# Altium footprint library SW_TL2230EEF100.PcbLib: 1 footprints
Each footprint in its own frame and in the unit in brackets; x right, y up, seen from the top. Pads: shape width x height; smd on the part's side, far side on the other; paste and mask are expansions set on the pad; w line width, h text height; cw(c..) or ccw(c..) is an arc to the next point about the centre after c.
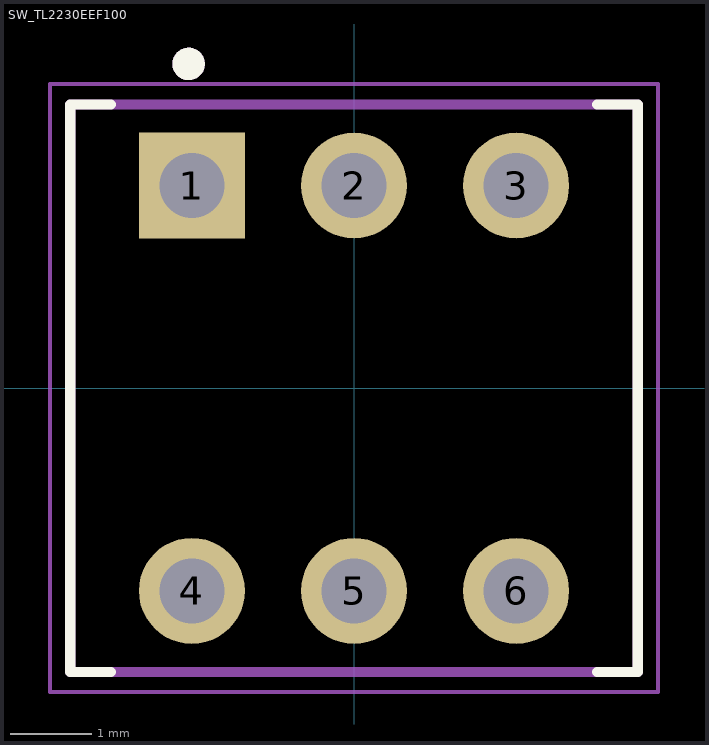
[diagram p0: the footprint, top view; thin cyan lines are the x and y axes]

## SW_TL2230EEF100 [mm]
height 12.5
pads (6):
  rect 1.308x1.308 hole 0.8: 1(-2,2.5)
  round 1.308 hole 0.8: 2(0,2.5) 3(2,2.5) 4(-2,-2.5) 5(0,-2.5) 6(2,-2.5)
Top Overlay:
  circle w0.2: c-2.04,4 r0.1
  lines w0.127: -3,-3.5 -3.5,-3.5 -3.5,3.5 -3,3.5 ; 3,-3.5 3.5,-3.5 3.5,3.5 3,3.5
Mechanical 13:
  circle w0.2: c-2.04,4 r0.1
  lines w0.127: -3.5,-3.5 3.5,-3.5 3.5,3.5 -3.5,3.5 -3.5,-3.5
Mechanical 15:
  lines w0.05: -3.75,-3.75 3.75,-3.75 3.75,3.75 -3.75,3.75 -3.75,-3.75
3D body "step_temp.STEP": height 3.5, standoff -3.5, extent -3.5,-11.75 3.5,4.25